# EAGLE library part MICROBUILDER_TVSARRAY_5LANE (library ECE477_parts_library)
Voltage Transient Suppressor Array SOT363 SMF05C - 100W 5V: Digikey - SMF05CT1GOSCT-ND
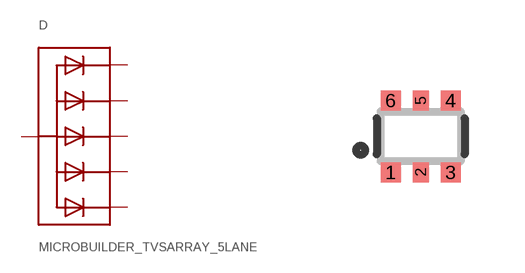
[diagram p6: symbol with the pads of MICROBUILDER_SOT363; footprint MICROBUILDER_SOT363]

Designator prefix D

## MICROBUILDER_TVSARRAY_5LANE  [MICROBUILDER_SOT363]
1  C1  pas
2  A  pas
3  C2  pas
4  C3  pas
5  C4  pas
6  C5  pas

## Footprint MICROBUILDER_SOT363 (pad centres in mm)
Source: http://www.nxp.com/documents/data_sheet/2N7002PS.pdf
smd 0.5 x 0.5: 1 -0.75,-0.9; 3 0.75,-0.9; 4 0.75,0.9; 6 -0.75,0.9
smd 0.4 x 0.5: 2 0,-0.9; 5 0,0.9